# EAGLE library part CON_HIROSE_DM3* (library con-usd-hirose-dm3)
Hirose μSD card socket without ejection mechanism. Approx 12x12 mm
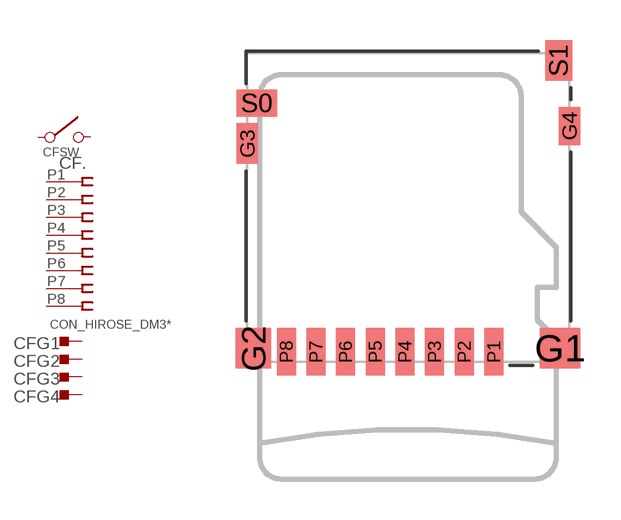
[diagram p0: symbol with the pads of HIROSE_DM3D(MICRO-SD); footprint HIROSE_DM3D(MICRO-SD)]

Designator prefix CF; gates G1=PAD+NAME G2=PAD+NAME G3=PAD+NAME G4=PAD+NAME .=CONN_RECEPTACLE_8 SW=SW_SPST

## CON_HIROSE_DM3D(MICROSD)  [HIROSE_DM3D(MICRO-SD)]
G1  G1:PAD  pas
G2  G2:PAD  pas
G3  G3:PAD  pas
G4  G4:PAD  pas
P1  .:1  pas
P2  .:2  pas
P3  .:3  pas
P4  .:4  pas
P5  .:5  pas
P6  .:6  pas
P7  .:7  pas
P8  .:8  pas
S0  SW:0  pas
S1  SW:1  pas

## Footprint HIROSE_DM3D(MICRO-SD) (pad centres in mm)
Hirose μSD card socket, push-pull without ejection mechanism. Approx 12x12 mm
smd 1.5 x 1.5: G1 5.75,0.125
smd 1.3 x 1.5: G2 -5.625,0.125
smd 0.8 x 1.5: G3 -5.85,7.725
smd 0.8 x 1.4: G4 6.1,8.375
smd 0.7 x 1.75: P1 3.3,0; P2 2.2,0; P3 1.1,0; P4 0,0; P5 -1.1,0; P6 -2.2,0; P7 -3.3,0; P8 -4.4,0
smd 1.5 x 1: S0 -5.5,9.225
smd 1 x 1.5: S1 5.7,10.8